# Altium integrated library SSM-108-X-DV.IntLib: 1 symbol
Pins are listed as number, name and electrical type; pins without a type are passive.

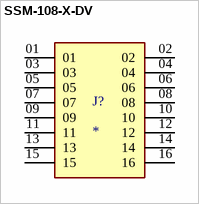
[diagram p0: symbol SSM-108-X-DV]

## SSM-108-X-DV
designator J?
MF: Samtec Inc.; MP: SSM-108-X-DV; Package: None; Price: None; Availability: Unavailable; Value: *
footprint SAMTEC_SSM-108-X-DV
pins: 01, 02, 03, 04, 05, 06, 07, 08, 09, 10, 11, 12, 13, 14, 15, 16